# Altium schematic symbol library Components - 04.08.24 - 13.SchLib: 1 symbol
Pins are listed as number, name and electrical type; pins without a type are passive.

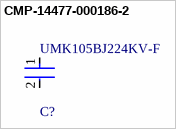
[diagram p0: symbol CMP-14477-000186-2]

## CMP-14477-000186-2
designator C?, comment UMK105BJ224KV-F
None; Dielectric: X5R; Tolerance: 10%; Voltage Rating: 50V; Capacitance: 220nF; Case/Package: 0402; Packaging: Tape and Reel; Termination: SMD/SMT; RoHS Compliant: Yes; Width: 0.02inch; Thickness: 0.022inch; Voltage Rating (DC): 50V; Case Code (Metric): 1005; Height: 0.5mm; Max Operating Temperature: 85°C; Case Code (Imperial): 0402; Lead Free: Lead Free; Mount: Surface Mount; Min Operating Temperature: -55°C; Length: 0.039inch; Halogen Free: Halogen Free; Package Quantity: 10000
footprint FP-0402-L_1_0_0_05-W_0_5-IPC_A
footprint FP-0402-L_1_0_0_05-W_0_5-MFG
footprint FP-0402-L_1_0_0_05-W_0_5-IPC_B
footprint FP-0402-L_1_0_0_05-W_0_5-IPC_C
pins: 1, 2